# Altium footprint library SJMP.PcbLib: 1 footprints
Each footprint in its own frame and in the unit in brackets; x right, y up, seen from the top. Pads: shape width x height; smd on the part's side, far side on the other; paste and mask are expansions set on the pad; w line width, h text height; cw(c..) or ccw(c..) is an arc to the next point about the centre after c.
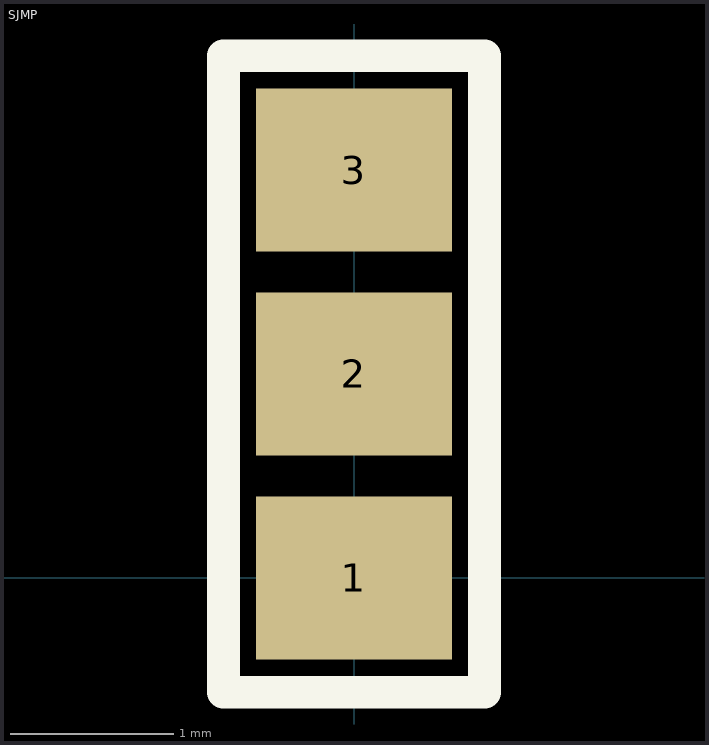
[diagram p0: the footprint, top view; thin cyan lines are the x and y axes]

## SJMP [mm]
pads (3):
  rect 1.2x1 smd: 1(0,0) 2(0,1.25) 3(0,2.5)
Top Overlay:
  lines w0.2: -0.8,-0.7 -0.8,3.2 0.8,3.2 0.8,-0.7 -0.8,-0.7